# Altium schematic symbol library Practical.SchLib: 22 symbols
Pins are listed as number, name and electrical type; pins without a type are passive.

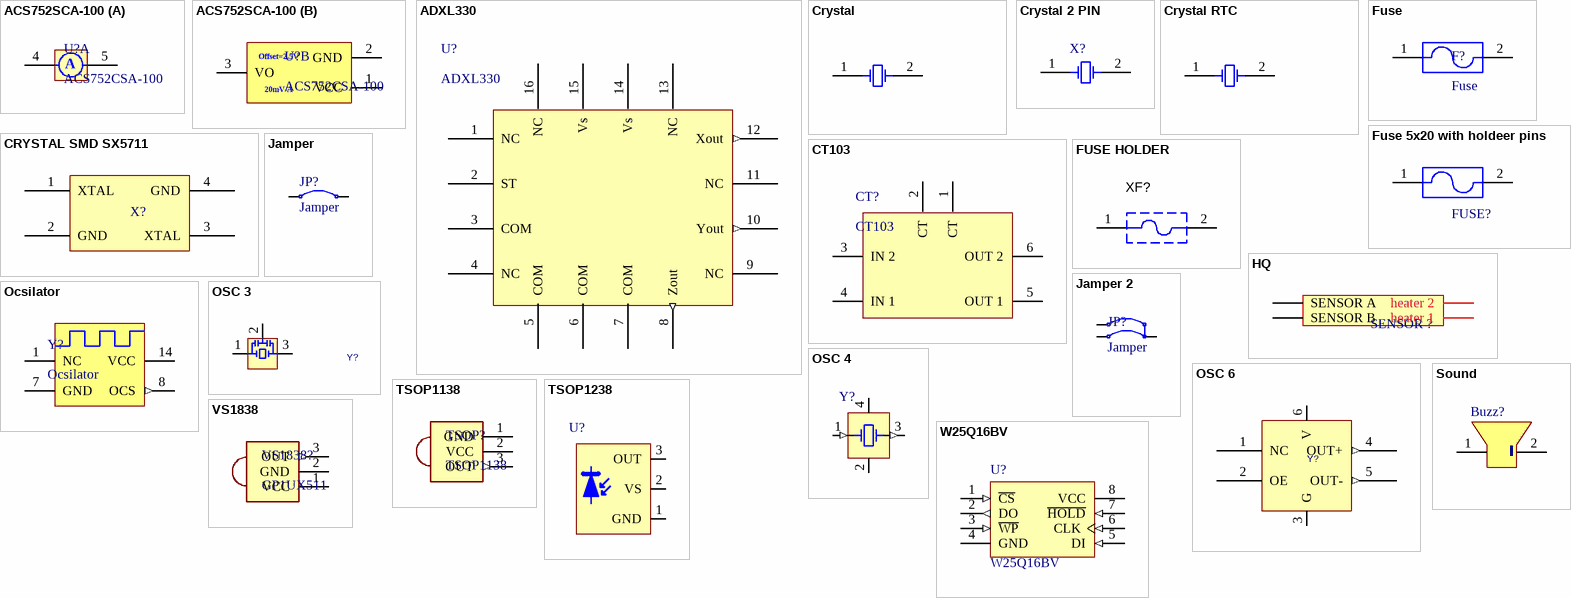
[diagram p0: symbols ACS752SCA-100 to W25Q16BV]

## ACS752SCA-100
designator U?, comment ACS752CSA-100
Current Sensor; DatasheetVersion: 2022
footprint ACS752SCA-100
part A pins: 4, 5
part B pins: 1 VCC (power), 2 GND (power), 3 VO
part A text: A
part B text: Offset=2.5V; 20mV/A

## ADXL330
designator U?
Small, Low Power, 3-Axis ±3 g; ANALOG DEVICE: ADXL330; DatasheetVersion: 2022
footprint 16-Lead LFCSP_LQ
pins: 1 NC, 2 ST (power), 3 COM (power), 4 NC, 5 COM (power), 6 COM (power), 7 COM (power), 8 Zout (out), 9 NC, 10 Yout (out), 11 NC, 12 Xout (out), 13 NC, 14 Vs, 15 Vs (power), 16 NC

## Crystal
designator Y?
Crystal; DatasheetVersion: 2022
footprint Crystal 1
footprint Crystal 2
footprint Crystal 3
footprint Crystal 4
footprint Crystal 6
footprint Crystal 5 16MHZ
footprint Crystal SMD
footprint Crystal SMD 2 (SMD crystal resonator, HC-49, HC49 11X4.5MM)
pins: 1, 2

## Crystal 2 PIN
designator X?
Crystal, 32.768KHz, 9pF, 20PPM; DatasheetVersion: 2022
footprint XTL_2_1610 (Crystals 1.6 mm x 1.0 mm)
footprint XTL_2_2012 (ABS06 2.0X1.2mm)
footprint XTL_2_3215 (ABS07 3.2x1.5mm)
footprint XTL_2_4115 (ABS07 4.1x1.5mm)
footprint XTL_2_5032 (ABM3)
footprint XTL_2_6035 (ABM7 6.2X3.5mm, 6.0X3.5mm)
footprint XTL_2_8045 (ABM2 8.0X4.5x1.4mm)
pins: 1 OSC1, 2 OSC2

## Crystal RTC
designator Y?
Crystal; DatasheetVersion: 2022
footprint Crystal Clock
footprint Crystal Clock Right (CRYSTAL RTC SLEEP, AB26T)
footprint Crystal Clock RIGHT 2
footprint Crystal Clock RIGHT 3
footprint Crystal Clock RIGHT SMD (AB26TRB, AB26TRJ, AB26TRQ)
footprint Crystal Clock SMD
pins: 1, 2

## CRYSTAL SMD SX5711
designator X?
High frequency stability and reliability SEAM CRYSTAL; DatasheetVersion: 2022
footprint SMD SEAM CRYSTAL SX5711 (High frequency stability and reliability)
pins: 1 XTAL, 2 GND, 3 XTAL, 4 GND

## CT103
designator CT?
DatasheetVersion: 2022
footprint CT103F
pins: 1 CT, 2 CT, 3 IN 2, 4 IN 1, 5 OUT 1, 6 OUT 2

## Fuse
designator F?
ComponentLinkp-URL: https://www.smartw.ir/; DatasheetVersion: 2022
footprint Fuse_(black)
footprint Fuse_(white)
footprint Fuse_(Green)
pins: 1, 2

## Fuse 5x20 with holdeer pins
designator FUSE?
Fuses 5x20; DatasheetVersion: 2022
footprint Fuse 5x20 With holder pin
pins: 1, 2

## FUSE HOLDER
designator XF?
FUSE HOLDER RADIAL 250V 6.3A PCB; DatasheetVersion: 2022
footprint FuseHolder_560000010
pins: 1, 2

## HQ
designator SENSOR GAS, comment SENSOR ?
MQ-7 GAS SENSOR; DatasheetVersion: 2022
footprint MQ-GAS
pins: 1 SENSOR A, 2 SENSOR B, 3 heater 1, 4 heater 2

## Jamper
designator JP?  value Jamper
Jumper Component; DatasheetVersion: 2022
footprint J0R/10 (0 Ohm Jumper Resistor)
footprint JP254_H (Jumper Header 2.54mm Pitch, Horizontal)
footprint JP254_V (Jumper Header 2.54mm Pitch, Vertical)
footprint J0508-200 (5.08 mm (200mil) Jumper wire)
footprint J0762-300 (7.62 mm (300 mil) Jumper wire)
footprint J1016-400 (10.16 mm (400 mil) Jumper wire)
footprint J1270-500 (12.7 mm (500 mil) Jumper wire)
footprint J1524-600 (15.24 mm (600 mil) Jumper wire)
footprint J2032-800 (20.32 mm (800 mil) Jumper wire)
footprint J2540-1000 (25.4 mm (1000 mil) Jumper wire)
footprint J3048-1200 (30.48 mm (1200 mil) Jumper wire)
footprint Jumper Small - 2.54 - RED
footprint Jumper Small - 2.54 - GRAY - Open
footprint Jumper Small - 2.54 - GRAY
footprint Jumper Small - 2.54 - BLUE
pins: 1, 2
4 alternate drawings of the same symbol

## Jamper 2
designator JP?  value Jamper
Jumper Component; DatasheetVersion: 2022
footprint Jumper Selector
footprint Jumper Selector SMD
pins: 1, 2, 3
4 alternate drawings of the same symbol

## Ocsilator
designator Y?
Crystal Ocsilator; DatasheetVersion: 2022
footprint OCS
pins: 1 NC, 7 GND (power), 8 OCS (out), 14 VCC (power)

## OSC 3
designator Y?
DatasheetVersion: 2022
footprint XTL_3_3213 (Crystal resonator CSTCE 3-lead 3.2 mm x 1.3 mm)
footprint XTL_3_4520 (Crystal resonator CSTCR 3-lead 4.5 mm x 2.0 mm)
pins: 1 OSC1, 2, 3 OSC2

## OSC 4
designator Y?
CLOCK OSCILLATOR,; DatasheetVersion: 2022
footprint XTL_4_2520 (CRYSTAL OSCILATOR 2.5X2.0mm, ABM10, CDFN-4)
footprint XTL_4_12X5 (ABC2, SMD crystal, 11.8X5.5mm)
footprint XTL_4_1210 (CRYSTAL OSCILATOR 1.2X1.0mm, ABM13)
footprint XTL_4_1612 (CRYSTAL OSCILATOR 1.6X1.2mm, ABM12)
footprint XTL_4_2016 (ABM11)
footprint XTL_4_3225 (CRYSTAL OSCILATOR 3.2X2.5mm, ABM8, CDFN-4)
footprint XTL_4_3225GEN (CRYSTAL OSCILATOR 1.2X1.0mm to 3.2X2.5mm)
footprint XTL_4_5032 (ASFLMB, CDFN-4)
footprint XTL_4_7050 (DFN-4, 7x5mm)
footprint XTL_4_7050GEN (2.5X2 TO 7X5)
pins: 1 E (in), 2 G (power), 3 O (out), 4 V (power)

## OSC 6
designator Y?
OSCILLATOR, DIFFERENTIAL LVDS, 100MHZ; DatasheetVersion: 2022
footprint XTL_6_7050 (Crystal Oscillator 6-Lead, 7X5mm)
footprint XTL_6_2520 (KT2520, KT2520, SM2520 2.5X2.0mm)
pins: 1 NC, 2 OE, 3 G (power), 4 OUT+ (out), 5 OUT- (out), 6 V (power)

## Sound
designator Buzz?
5-12v small buzzer (12mm); ComponentLinkp-URL: https://www.smartw.ir/; DatasheetVersion: 2022
footprint Buzzer
footprint Microphone
pins: 1 (power), 2 (power)
text: -

## TSOP1138
designator TSOP?
IR Receiver Modules for Remote Control Systems; ComponentLinkp-URL: https://www.smartw.ir/; DatasheetVersion: 2022
footprint TSOP11XX & 13XX
pins: 1 GND (power), 2 VCC (power), 3 OUT (out)

## TSOP1238
designator U?  (value not drawn)
Right; DatasheetVersion: 2022
footprint TSOP1238
pins: 1 GND, 2 VS, 3 OUT

## VS1838
designator VS1838?, comment GP1UX511
VS1838; ComponentLinkp-URL: https://www.smartw.ir/; DatasheetVersion: 2022
footprint TSOP
pins: 1 VCC (power), 2 GND (power), 3 OUT (out)

## W25Q16BV
designator U?
Flash, pin, soic, flash, Memory, Semiconductors and Actives, serial, ic; DatasheetVersion: 2022
footprint SO08
footprint DIL08
pins: 1 ~{CS} (in), 2 DO (out), 3 ~{WP} (in), 4 GND (power), 5 DI (in), 6 CLK (in), 7 ~{HOLD} (in), 8 VCC (power)